# EAGLE library part BTS7200-2EPA (library PROFET - Infineon)
BTS7200-2EPA PROFET +2, Smart High-Side Power Switch 200 mOhm Dual Channel SOP65P600X115-15N-V
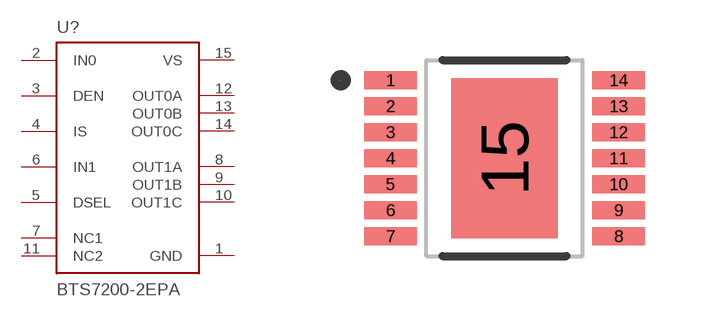
[diagram p83: symbol with the pads of SOP65P600X115-15N-V; footprint SOP65P600X115-15N-V]

Designator prefix U?

## BTS7200-2EPA  [SOP65P600X115-15N-V]
1  GND  pwr
2  IN0  in
3  DEN  in
4  IS  out
5  DSEL  in
6  IN1  in
7  NC1  pas
8  OUT1A  out
9  OUT1B  out
10  OUT1C  out
11  NC2  pas
12  OUT0A  out
13  OUT0B  out
14  OUT0C  out
15  VS  pwr

## Footprint SOP65P600X115-15N-V (pad centres in mm)
Original name SOP65P600X115-15N-V Max Component Height - 1.15mm
smd 1.31 x 0.45: 1 -2.85,1.95; 2 -2.85,1.3; 3 -2.85,0.65; 4 -2.85,0; 5 -2.85,-0.65; 6 -2.85,-1.3; 7 -2.85,-1.95; 8 2.85,-1.95; 9 2.85,-1.3; 10 2.85,-0.65; 11 2.85,0; 12 2.85,0.65; 13 2.85,1.3; 14 2.85,1.95
smd 2.65 x 4: 15 0,0